# EAGLE library part WEMOS_D1_MINI_ESP32 (library wemos_D1_mini_ESP32)
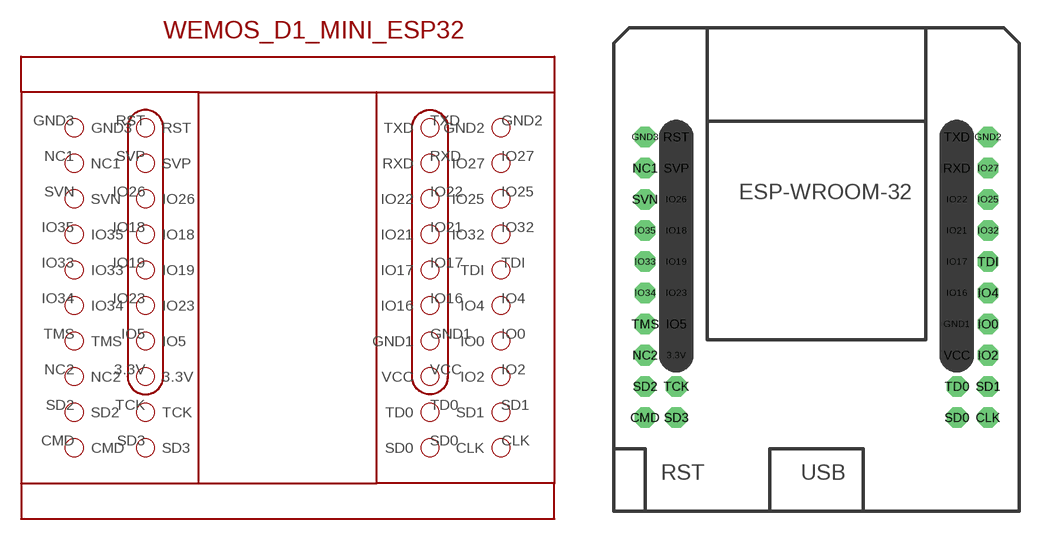
[diagram p0: symbol with the pads of WEMOS_D1_MINI_ESP32; footprint WEMOS_D1_MINI_ESP32]

Designator prefix -

## WEMOS_D1_MINI_ESP32  [WEMOS_D1_MINI_ESP32]
3.3V  3.3V
CLK  CLK
CMD  CMD
GND1  GND1
GND2  GND2
GND3  GND3
IO0  IO0
IO2  IO2
IO4  IO4
IO5  IO5
IO16  IO16
IO17  IO17
IO18  IO18
IO19  IO19
IO21  IO21
IO22  IO22
IO23  IO23
IO25  IO25
IO26  IO26
IO27  IO27
IO32  IO32
IO33  IO33
IO34  IO34
IO35  IO35
NC1  NC1
NC2  NC2
RST  RST
RXD  RXD
SD0  SD0
SD1  SD1
SD2  SD2
SD3  SD3
SVN  SVN
SVP  SVP
TCK  TCK
TD0  TD0
TDI  TDI
TMS  TMS
TXD  TXD
VCC  VCC

## Footprint WEMOS_D1_MINI_ESP32 (pad centres in mm)
drill 1 pad 1.676 octagon: 3.3V 5.08,12.7; CLK 30.48,7.62; CMD 2.54,7.62; GND1 27.94,15.24; GND2 30.48,30.48; GND3 2.54,30.48; IO0 30.48,15.24; IO2 30.48,12.7; IO4 30.48,17.78; IO5 5.08,15.24; IO16 27.94,17.78; IO17 27.94,20.32; IO18 5.08,22.86; IO19 5.08,20.32; IO21 27.94,22.86; IO22 27.94,25.4; IO23 5.08,17.78; IO25 30.48,25.4; IO26 5.08,25.4; IO27 30.48,27.94; IO32 30.48,22.86; IO33 2.54,20.32; IO34 2.54,17.78; IO35 2.54,22.86; NC1 2.54,27.94; NC2 2.54,12.7; RST 5.08,30.48; RXD 27.94,27.94; SD0 27.94,7.62; SD1 30.48,10.16; SD2 2.54,10.16; SD3 5.08,7.62; SVN 2.54,25.4; SVP 5.08,27.94; TCK 5.08,10.16; TD0 27.94,10.16; TDI 30.48,20.32; TMS 2.54,15.24; TXD 27.94,30.48; VCC 27.94,12.7